# Altium footprint library Button_Switch_THT.PcbLib: 98 footprints (part 4 of 7)
Each footprint in its own frame and in the unit in brackets; x right, y up, seen from the top. Pads: shape width x height; smd on the part's side, far side on the other; paste and mask are expansions set on the pad; w line width, h text height; cw(c..) or ccw(c..) is an arc to the next point about the centre after c.
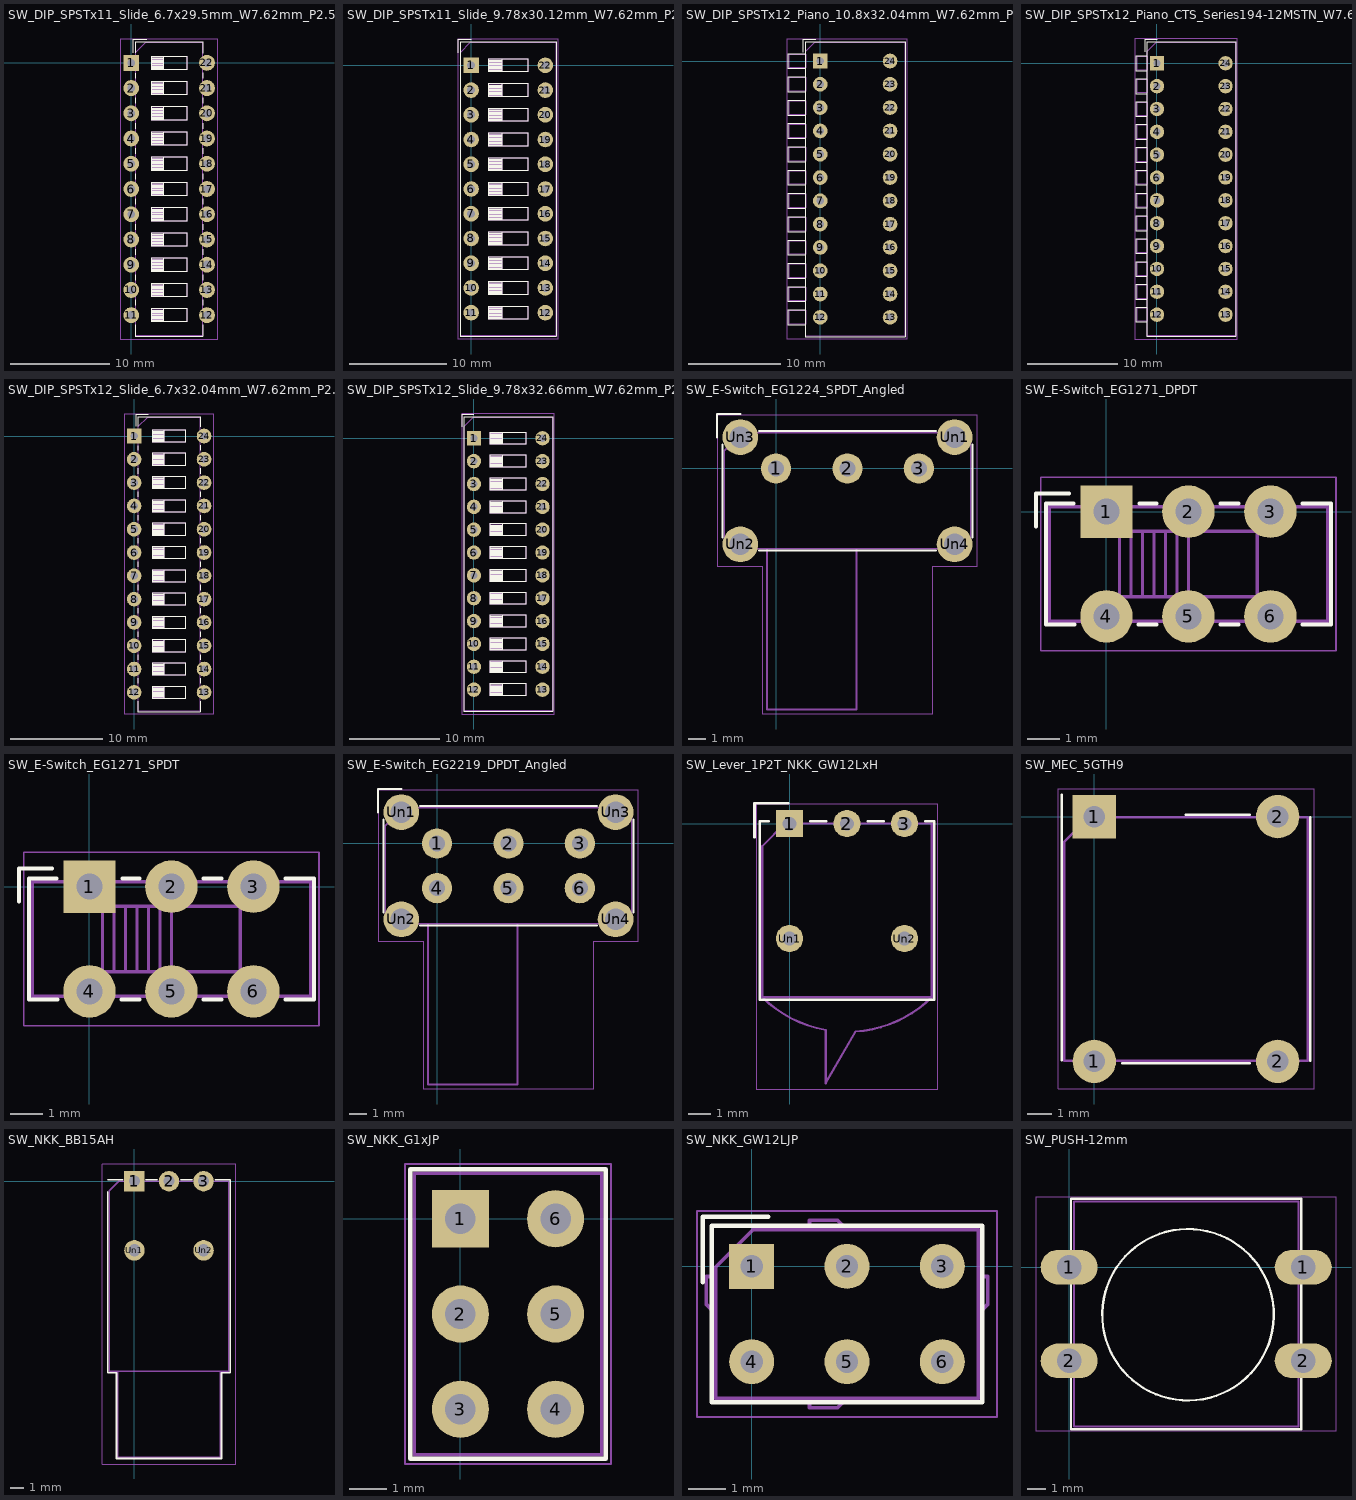
[diagram p3: the footprints below, top view; thin cyan lines are the x and y axes]

## SW_DIP_SPSTx11_Slide_6.7x29.5mm_W7.62mm_P2.54mm_LowProfile [mm]
pads (22):
  rect 1.6x1.6 hole 0.8: 1(0,0)
  rrect100% 1.6x1.6 hole 0.8: 2(0,-2.54) 3(0,-5.08) 4(0,-7.62) 5(0,-10.16) 6(0,-12.7) 7(0,-15.24) 8(0,-17.78) 9(0,-20.32) 10(0,-22.86) 11(0,-25.4) 12(7.62,-25.4) 13(7.62,-22.86) 14(7.62,-20.32) 15(7.62,-17.78) 16(7.62,-15.24) 17(7.62,-12.7) 18(7.62,-10.16) 19(7.62,-7.62) 20(7.62,-5.08) 21(7.62,-2.54) 22(7.62,0)
F.SilkS:
  drawing of 193 lines, arcs and shapes, not listed
F.CrtYd:
  lines w0.05: -1.1,-27.8 8.7,-27.8 8.7,2.4 -1.1,2.4 -1.1,-27.8
F.Fab:
  drawing of 192 lines, arcs and shapes, not listed
  text "'.Designator'" at 7.062,-15.937 h0.8
  text "on" at 3.82,0.956 h0.8

## SW_DIP_SPSTx11_Slide_9.78x30.12mm_W7.62mm_P2.54mm [mm]
pads (22):
  rect 1.6x1.6 hole 0.8: 1(0,0)
  rrect100% 1.6x1.6 hole 0.8: 2(0,-2.54) 3(0,-5.08) 4(0,-7.62) 5(0,-10.16) 6(0,-12.7) 7(0,-15.24) 8(0,-17.78) 9(0,-20.32) 10(0,-22.86) 11(0,-25.4) 12(7.62,-25.4) 13(7.62,-22.86) 14(7.62,-20.32) 15(7.62,-17.78) 16(7.62,-15.24) 17(7.62,-12.7) 18(7.62,-10.16) 19(7.62,-7.62) 20(7.62,-5.08) 21(7.62,-2.54) 22(7.62,0)
F.SilkS:
  drawing of 171 lines, arcs and shapes, not listed
F.CrtYd:
  lines w0.05: -1.35,-28.1 8.95,-28.1 8.95,2.7 -1.35,2.7 -1.35,-28.1
F.Fab:
  drawing of 192 lines, arcs and shapes, not listed
  text "'.Designator'" at 7.942,-15.937 h0.8
  text "on" at 4.7,1.111 h0.8

## SW_DIP_SPSTx12_Piano_10.8x32.04mm_W7.62mm_P2.54mm [mm]
pads (24):
  rect 1.6x1.6 hole 0.8: 1(0,0)
  rrect100% 1.6x1.6 hole 0.8: 2(0,-2.54) 3(0,-5.08) 4(0,-7.62) 5(0,-10.16) 6(0,-12.7) 7(0,-15.24) 8(0,-17.78) 9(0,-20.32) 10(0,-22.86) 11(0,-25.4) 12(0,-27.94) 13(7.62,-27.94) 14(7.62,-25.4) 15(7.62,-22.86) 16(7.62,-20.32) 17(7.62,-17.78) 18(7.62,-15.24) 19(7.62,-12.7) 20(7.62,-10.16) 21(7.62,-7.62) 22(7.62,-5.08) 23(7.62,-2.54) 24(7.62,0)
F.SilkS:
  lines w0.12: -1.89,0.967 -1.89,2.35 -0.507,2.35 ; -3.51,-28.751 -3.51,-27.131 -1.65,-27.131 -1.65,-28.751 -3.51,-28.751 ; -3.51,-26.21 -3.51,-24.59 -1.65,-24.59 -1.65,-26.21 -3.51,-26.21 ; -3.51,-23.67 -1.65,-23.67 -1.65,-22.05 -3.51,-22.05 -3.51,-23.67 ; -3.51,-21.131 -1.65,-21.131 -1.65,-19.51 -3.51,-19.51 -3.51,-21.131 ; -3.51,-18.591 -1.65,-18.591 -1.65,-16.971 -3.51,-16.971 -3.51,-18.591 ; -3.51,-16.05 -3.51,-14.43 -1.65,-14.43 -1.65,-16.05 -3.51,-16.05 ; -3.51,-13.51 -3.51,-11.89 -1.65,-11.89 -1.65,-13.51 -3.51,-13.51 ; -3.51,-10.97 -3.51,-9.35 -1.65,-9.35 -1.65,-10.97 -3.51,-10.97 ; -3.51,-8.43 -1.65,-8.43 -1.65,-6.81 -3.51,-6.81 -3.51,-8.43 ; -3.51,-5.89 -3.51,-4.27 -1.65,-4.27 -1.65,-5.89 -3.51,-5.89 ; -3.51,-3.35 -1.65,-3.35 -1.65,-1.73 -3.51,-1.73 -3.51,-3.35 ; -3.51,-0.81 -1.65,-0.81 -1.65,0.81 -3.51,0.81 -3.51,-0.81 ; -1.65,-30.05 -1.65,2.11 9.27,2.11 9.27,-30.05 -1.65,-30.05
F.CrtYd:
  lines w0.05: -3.65,-30.3 -3.65,2.4 9.5,2.4 9.5,-30.3 -3.65,-30.3
F.Fab:
  lines w0.1: -3.39,-28.69 -1.59,-28.69 -1.59,-27.19 -3.39,-27.19 -3.39,-28.69 ; -3.39,-26.15 -3.39,-24.65 -1.59,-24.65 -1.59,-26.15 -3.39,-26.15 ; -3.39,-23.61 -1.59,-23.61 -1.59,-22.11 -3.39,-22.11 -3.39,-23.61 ; -3.39,-21.07 -3.39,-19.57 -1.59,-19.57 -1.59,-21.07 -3.39,-21.07 ; -3.39,-18.53 -3.39,-17.03 -1.59,-17.03 -1.59,-18.53 -3.39,-18.53 ; -3.39,-15.99 -1.59,-15.99 -1.59,-14.49 -3.39,-14.49 -3.39,-15.99 ; -3.39,-13.45 -3.39,-11.95 -1.59,-11.95 -1.59,-13.45 -3.39,-13.45 ; -3.39,-10.91 -1.59,-10.91 -1.59,-9.41 -3.39,-9.41 -3.39,-10.91 ; -3.39,-8.37 -3.39,-6.87 -1.59,-6.87 -1.59,-8.37 -3.39,-8.37 ; -3.39,-5.83 -1.59,-5.83 -1.59,-4.33 -3.39,-4.33 -3.39,-5.83 ; -3.39,-3.29 -3.39,-1.79 -1.59,-1.79 -1.59,-3.29 -3.39,-3.29 ; -3.39,-0.75 -3.39,0.75 -1.59,0.75 -1.59,-0.75 -3.39,-0.75 ; -1.59,-29.99 -1.59,1.05 -0.59,2.05 9.21,2.05 9.21,-29.99 -1.59,-29.99
  text "'.Designator'" at 0.573,-14.642 h0.8

## SW_DIP_SPSTx12_Piano_CTS_Series194-12MSTN_W7.62mm_P2.54mm [mm]
pads (24):
  rect 1.6x1.6 hole 0.8: 1(0,0)
  rrect100% 1.6x1.6 hole 0.8: 2(0,-2.54) 3(0,-5.08) 4(0,-7.62) 5(0,-10.16) 6(0,-12.7) 7(0,-15.24) 8(0,-17.78) 9(0,-20.32) 10(0,-22.86) 11(0,-25.4) 12(0,-27.94) 13(7.62,-27.94) 14(7.62,-25.4) 15(7.62,-22.86) 16(7.62,-20.32) 17(7.62,-17.78) 18(7.62,-15.24) 19(7.62,-12.7) 20(7.62,-10.16) 21(7.62,-7.62) 22(7.62,-5.08) 23(7.62,-2.54) 24(7.62,0)
F.SilkS:
  lines w0.12: -1.38,1.277 -1.38,2.66 0.004,2.66 ; -2.34,-28.76 -1.14,-28.76 -1.14,-27.12 -2.34,-27.12 -2.34,-28.76 ; -2.34,-26.22 -2.34,-24.58 -1.14,-24.58 -1.14,-26.22 -2.34,-26.22 ; -2.34,-23.68 -1.14,-23.68 -1.14,-22.04 -2.34,-22.04 -2.34,-23.68 ; -2.34,-21.14 -1.14,-21.14 -1.14,-19.5 -2.34,-19.5 -2.34,-21.14 ; -2.34,-18.6 -1.14,-18.6 -1.14,-16.96 -2.34,-16.96 -2.34,-18.6 ; -2.34,-16.06 -1.14,-16.06 -1.14,-14.42 -2.34,-14.42 -2.34,-16.06 ; -2.34,-13.52 -1.14,-13.52 -1.14,-11.88 -2.34,-11.88 -2.34,-13.52 ; -2.34,-10.98 -2.34,-9.34 -1.14,-9.34 -1.14,-10.98 -2.34,-10.98 ; -2.34,-8.441 -1.14,-8.441 -1.14,-6.801 -2.34,-6.801 -2.34,-8.441 ; -2.34,-5.9 -1.14,-5.9 -1.14,-4.261 -2.34,-4.261 -2.34,-5.9 ; -2.34,-3.361 -2.34,-1.72 -1.14,-1.72 -1.14,-3.361 -2.34,-3.361 ; -2.34,-0.82 -1.14,-0.82 -1.14,0.82 -2.34,0.82 -2.34,-0.82 ; -1.14,-30.36 -1.14,2.42 8.76,2.42 8.76,-30.36 -1.14,-30.36
F.CrtYd:
  lines w0.05: -2.5,-30.65 8.95,-30.65 8.95,2.7 -2.5,2.7 -2.5,-30.65
F.Fab:
  lines w0.1: -2.22,-28.7 -2.22,-27.18 -1.08,-27.18 -1.08,-28.7 -2.22,-28.7 ; -2.22,-26.16 -2.22,-24.64 -1.08,-24.64 -1.08,-26.16 -2.22,-26.16 ; -2.22,-23.62 -1.08,-23.62 -1.08,-22.1 -2.22,-22.1 -2.22,-23.62 ; -2.22,-21.08 -2.22,-19.56 -1.08,-19.56 -1.08,-21.08 -2.22,-21.08 ; -2.22,-18.54 -1.08,-18.54 -1.08,-17.02 -2.22,-17.02 -2.22,-18.54 ; -2.22,-16 -2.22,-14.48 -1.08,-14.48 -1.08,-16 -2.22,-16 ; -2.22,-13.46 -2.22,-11.94 -1.08,-11.94 -1.08,-13.46 -2.22,-13.46 ; -2.22,-10.92 -1.08,-10.92 -1.08,-9.4 -2.22,-9.4 -2.22,-10.92 ; -2.22,-8.38 -1.08,-8.38 -1.08,-6.86 -2.22,-6.86 -2.22,-8.38 ; -2.22,-5.84 -1.08,-5.84 -1.08,-4.32 -2.22,-4.32 -2.22,-5.84 ; -2.22,-3.3 -1.08,-3.3 -1.08,-1.78 -2.22,-1.78 -2.22,-3.3 ; -2.22,-0.76 -1.08,-0.76 -1.08,0.76 -2.22,0.76 -2.22,-0.76 ; -1.08,-30.3 8.7,-30.3 8.7,2.36 -0.08,2.36 -1.08,1.36 -1.08,-30.3
  text "'.Designator'" at 0.573,-14.642 h0.8

## SW_DIP_SPSTx12_Slide_6.7x32.04mm_W7.62mm_P2.54mm_LowProfile [mm]
pads (24):
  rect 1.6x1.6 hole 0.8: 1(0,0)
  rrect100% 1.6x1.6 hole 0.8: 2(0,-2.54) 3(0,-5.08) 4(0,-7.62) 5(0,-10.16) 6(0,-12.7) 7(0,-15.24) 8(0,-17.78) 9(0,-20.32) 10(0,-22.86) 11(0,-25.4) 12(0,-27.94) 13(7.62,-27.94) 14(7.62,-25.4) 15(7.62,-22.86) 16(7.62,-20.32) 17(7.62,-17.78) 18(7.62,-15.24) 19(7.62,-12.7) 20(7.62,-10.16) 21(7.62,-7.62) 22(7.62,-5.08) 23(7.62,-2.54) 24(7.62,0)
F.SilkS:
  drawing of 210 lines, arcs and shapes, not listed
F.CrtYd:
  lines w0.05: -1.1,-30.3 8.7,-30.3 8.7,2.4 -1.1,2.4 -1.1,-30.3
F.Fab:
  drawing of 209 lines, arcs and shapes, not listed
  text "on" at 3.82,0.956 h0.8
  text "'.Designator'" at 7.062,-17.207 h0.8

## SW_DIP_SPSTx12_Slide_9.78x32.66mm_W7.62mm_P2.54mm [mm]
pads (24):
  rect 1.6x1.6 hole 0.8: 1(0,0)
  rrect100% 1.6x1.6 hole 0.8: 2(0,-2.54) 3(0,-5.08) 4(0,-7.62) 5(0,-10.16) 6(0,-12.7) 7(0,-15.24) 8(0,-17.78) 9(0,-20.32) 10(0,-22.86) 11(0,-25.4) 12(0,-27.94) 13(7.62,-27.94) 14(7.62,-25.4) 15(7.62,-22.86) 16(7.62,-20.32) 17(7.62,-17.78) 18(7.62,-15.24) 19(7.62,-12.7) 20(7.62,-10.16) 21(7.62,-7.62) 22(7.62,-5.08) 23(7.62,-2.54) 24(7.62,0)
F.SilkS:
  drawing of 186 lines, arcs and shapes, not listed
F.CrtYd:
  lines w0.05: -1.35,-30.65 8.95,-30.65 8.95,2.7 -1.35,2.7 -1.35,-30.65
F.Fab:
  drawing of 209 lines, arcs and shapes, not listed
  text "'.Designator'" at 7.942,-17.207 h0.8
  text "on" at 4.7,1.111 h0.8

## SW_E-Switch_EG1224_SPDT_Angled [mm]
pads (7):
  round 1.7 hole 0.9: 1(0,0) 2(4,0) 3(8,0)
  round 2 hole 1.2: Un1(10,1.75) Un2(-2,-4.25) Un3(-2,1.75) Un4(10,-4.25)
F.SilkS:
  lines w0.12: -3.3,1.75 -3.3,3.05 -2,3.05 ; -3,-3.85 -3,1.35 ; -0.95,-4.6 8.95,-4.6 ; -0.95,2.1 8.95,2.1 ; 11,-3.85 11,1.35
F.CrtYd:
  lines w0.05: -3.25,-5.5 -0.75,-5.5 -0.75,-13.75 8.75,-13.75 8.75,-5.5 11.25,-5.5 11.25,3 -3.25,3 -3.25,-5.5
F.Fab:
  lines w0.1: -0.5,-4.5 -0.5,-13.5 4.5,-13.5 4.5,-4.5 ; -2.9,-4.5 10.9,-4.5 10.9,2 -1.9,2 -2.9,1 -2.9,-4.5
  text "'.Designator'" at 0.003,-2.04 h1

## SW_E-Switch_EG1271_DPDT [mm]
pads (6):
  rect 1.6x1.6 hole 0.8: 1(0,0)
  round 1.6 hole 0.8: 2(2.5,0) 3(5,0) 4(0,-3.2) 5(2.5,-3.2) 6(5,-3.2)
F.SilkS:
  lines w0.12: -2.15,-0.45 -2.15,0.55 -1.15,0.55 ; -1,0.25 -1.85,0.25 -1.85,-3.45 -0.97,-3.45 ; 0.97,-3.45 1.53,-3.45 ; 1,0.25 1.53,0.25 ; 3.47,-3.45 4.02,-3.45 ; 3.47,0.25 4.03,0.25 ; 5.97,0.25 6.85,0.25 6.85,-3.45 5.98,-3.45
F.CrtYd:
  lines w0.05: -2,-4.25 7,-4.25 7,1.05 -2,1.05 -2,-4.25
F.Fab:
  lines w0.1: 0.75,-2.6 0.75,-0.6 ; 1.1,-2.6 1.1,-0.6 ; 1.45,-2.6 1.45,-0.6 ; 1.8,-2.6 1.8,-0.6 ; 2.15,-2.6 2.15,-0.6 ; 2.5,-2.6 2.5,-0.6 ; -1.75,-3.35 6.75,-3.35 6.75,0.15 -1.75,0.15 -1.75,-3.35 ; 0.4,-2.6 4.6,-2.6 4.6,-0.6 0.4,-0.6 0.4,-2.6
  text "'.Designator'" at -1.547,0.81 h1

## SW_E-Switch_EG1271_SPDT [mm]
pads (6):
  rect 1.6x1.6 hole 0.8: 1(0,0)
  round 1.6 hole 0.8: 2(2.5,0) 3(5,0) 4(0,-3.2) 5(2.5,-3.2) 6(5,-3.2)
F.SilkS:
  lines w0.12: -2.15,-0.45 -2.15,0.55 -1.15,0.55 ; -1,0.25 -1.85,0.25 -1.85,-3.45 -0.97,-3.45 ; 0.97,-3.45 1.53,-3.45 ; 1,0.25 1.53,0.25 ; 3.47,-3.45 4.02,-3.45 ; 3.47,0.25 4.03,0.25 ; 5.97,0.25 6.85,0.25 6.85,-3.45 5.98,-3.45
F.CrtYd:
  lines w0.05: -2,-4.25 7,-4.25 7,1.05 -2,1.05 -2,-4.25
F.Fab:
  lines w0.1: 0.75,-2.6 0.75,-0.6 ; 1.1,-2.6 1.1,-0.6 ; 1.45,-2.6 1.45,-0.6 ; 1.8,-2.6 1.8,-0.6 ; 2.15,-2.6 2.15,-0.6 ; 2.5,-2.6 2.5,-0.6 ; -1.75,-3.35 6.75,-3.35 6.75,0.15 -1.75,0.15 -1.75,-3.35 ; 0.4,-2.6 4.6,-2.6 4.6,-0.6 0.4,-0.6 0.4,-2.6
  text "'.Designator'" at -1.547,0.81 h1

## SW_E-Switch_EG2219_DPDT_Angled [mm]
pads (10):
  round 1.7 hole 0.9: 1(0,0) 2(4,0) 3(8,0) 4(0,-2.5) 5(4,-2.5) 6(8,-2.5)
  round 2 hole 1.2: Un1(-2,1.75) Un2(-2,-4.25) Un3(10,1.75) Un4(10,-4.25)
F.SilkS:
  lines w0.12: -3.3,1.75 -3.3,3.05 -2,3.05 ; -3,-3.85 -3,1.35 ; -0.95,-4.6 8.95,-4.6 ; -0.95,2.1 8.95,2.1 ; 11,-3.85 11,1.35
F.CrtYd:
  lines w0.05: -3.25,-5.5 -3.25,3 11.25,3 11.25,-5.5 8.75,-5.5 8.75,-13.75 -0.75,-13.75 -0.75,-5.5 -3.25,-5.5
F.Fab:
  lines w0.1: -0.5,-4.5 -0.5,-13.5 4.5,-13.5 4.5,-4.5 ; -2.9,-4.5 10.9,-4.5 10.9,2 -1.9,2 -2.9,1 -2.9,-4.5
  text "'.Designator'" at 0.003,-2.04 h1

## SW_Lever_1P2T_NKK_GW12LxH [mm]
pads (5):
  rect 1.2x1.2 hole 0.6: 1(0,0)
  round 1.2 hole 0.6: 2(2.54,0) 3(5.08,0) Un1(0,-5.08) Un2(5.08,-5.08)
F.SilkS:
  lines w0.12: -1.55,-0.6 -1.55,0.9 -0.05,0.9 ; -0.914,0.1 -1.31,0.1 -1.31,-7.78 6.39,-7.78 6.39,0.1 5.994,0.1 ; 0.914,0.1 1.627,0.1 ; 3.454,0.1 4.167,0.1
F.CrtYd:
  lines w0.05: -1.46,-11.73 -1.46,0.85 6.54,0.85 6.54,-11.73 -1.46,-11.73
F.Fab:
  lines w0.1: -1.205,-7.679 ccw(c2.54,-3.84) 1.6,-9.12 1.6,-11.48 2.92,-9.19 ; 2.916,-9.194 ccw(c2.54,-3.84) 6.29,-7.68 ; 6.29,-7.68 -1.21,-7.68 -1.21,-1 -0.21,0 6.29,0 6.29,-7.68
  text "'.Designator'" at -1.507,-4.68 h1

## SW_MEC_5GTH9 [mm]
pads (4):
  round 1.8 hole 0.9: 1(0,-10.16) 2(7.62,-10.16) 2(7.62,0)
  rect 1.8x1.8 hole 0.9: 1(0,0)
F.SilkS:
  lines w0.12: -1.35,-10.11 -1.35,0.9 ; 1.16,-10.24 6.46,-10.24 ; 3.81,0.08 6.46,0.08 ; 8.97,-10.12 8.97,-0.04
F.CrtYd:
  lines w0.05: -1.49,-11.31 9.11,-11.31 9.11,1.15 -1.49,1.15 -1.49,-11.3
F.Fab:
  lines w0.1: -1.24,-10.13 8.86,-10.13 8.86,-0.03 -0.24,-0.03 -1.24,-1.03 -1.24,-10.13
  text "'.Designator'" at -0.287,-5.87 h1

## SW_NKK_BB15AH [mm]
pads (5):
  rect 1.5x1.5 hole 0.8: 1(0,0)
  round 1.5 hole 0.8: 2(2.54,0) 3(5.08,0)
  round 1.5 hole 0.9: Un1(0,-5.08) Un2(5.08,-5.08)
F.SilkS:
  lines w0.12: -1.96,-0.79 -1.96,-14.06 -1.31,-14.06 -1.31,-20.36 6.39,-20.36 6.39,-14.06 7.04,-14.06 7.04,0.11 5.94,0.11 ; -1.96,0.11 -0.86,0.11 ; 0.84,0.11 1.69,0.11 ; 3.39,0.11 4.24,0.11
F.CrtYd:
  lines w0.05: -2.36,-20.76 -2.36,1.26 7.44,1.26 7.44,-20.76 -2.36,-20.76
F.Fab:
  lines w0.1: -1.21,-13.96 -1.21,-20.26 6.29,-20.26 6.29,-13.96 ; -1.86,-13.96 -1.86,-0.69 -1.16,0.01 6.94,0.01 6.94,-13.96 -1.86,-13.96
  text "'.Designator'" at -1.532,-3.73 h1

## SW_NKK_G1xJP [mil]
pads (6):
  rect 60x60 hole 32: 1(0,0)
  round 60 hole 32: 2(0,-100) 3(0,-200) 4(100,-200) 5(100,-100) 6(100,0)
F.SilkS:
  lines w4.72: -52.8,-252 152.8,-252 152.8,52 -52.8,52 -52.8,-252
F.CrtYd:
  lines w1.97: -58.27,-257.48 -58.27,57.48 158.27,57.48 158.27,-257.48 -58.27,-257.48
F.Fab:
  lines w3.94: -48.43,-247.64 -48.43,47.64 148.43,47.64 148.43,-247.64 -48.43,-247.64
  text "'.Designator'" at -109.32,53.53 h39.37

## SW_NKK_GW12LJP [mm]
pads (6):
  rect 1.2x1.2 hole 0.6: 1(0,0)
  round 1.2 hole 0.6: 2(2.54,0) 3(5.08,0) 4(0,-2.54) 5(2.54,-2.54) 6(5.08,-2.54)
F.SilkS:
  lines w0.12: -1.3,-0.42 -1.3,1.32 0.44,1.32 ; -1.06,-3.62 6.14,-3.62 6.14,1.08 -1.06,1.08 -1.06,-3.62
F.CrtYd:
  lines w0.05: -1.46,-4.02 -1.46,1.48 6.54,1.48 6.54,-4.02 -1.46,-4.02
F.Fab:
  lines w0.1: -0.96,-1.27 -1.21,-1.02 -1.21,-0.27 -0.96,-0.27 ; 1.54,-3.52 1.54,-3.77 2.29,-3.77 2.54,-3.52 ; 1.54,0.98 1.54,1.23 2.29,1.23 2.54,0.98 ; 6.04,-1.27 6.29,-1.02 6.29,-0.27 6.04,-0.27 ; -0.96,-3.52 -0.96,-0.02 0.04,0.98 6.04,0.98 6.04,-3.52 -0.96,-3.52
  text "'.Designator'" at -1.507,-2.11 h1

## SW_PUSH-12mm [mm]
pads (4):
  rrect100% 3.048x1.85 hole 1.3: 1(0,0) 1(12.5,0) 2(0,-5) 2(12.5,-5)
F.SilkS:
  circle w0.12: c6.35,-2.54 r4.579
  lines w0.12: 0.1,-5.93 0.1,-8.65 12.4,-8.65 12.4,-5.93 ; 0.1,-4.07 0.1,-0.93 ; 0.1,0.93 0.1,3.65 12.4,3.65 12.4,0.93 ; 12.4,-4.07 12.4,-0.93
F.CrtYd:
  lines w0.05: -1.77,-8.75 14.25,-8.75 14.25,3.75 -1.77,3.75 -1.77,-8.75
F.Fab:
  lines w0.1: 0.25,-8.5 0.25,3.5 12.25,3.5 12.25,-8.5 0.25,-8.5
  text "'.Designator'" at 2.303,-3.38 h1